# EAGLE library part 0794065-0 (library con-amp)
MINI UNIVERSAL MATE-N-LOCK (TM) Double Row Vertical 8 Pol. Source: http://catalog.tycoelectronics.com .. ENG_CD_794065_D1.pdf
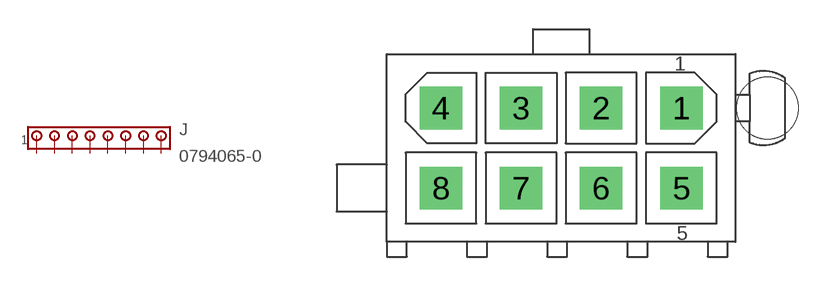
[diagram p170: symbol with the pads of 0794065-0; footprint 0794065-0]

Designator prefix J

## 0794065-0  [0794065-0]
1  1  pas
2  2  pas
3  3  pas
4  4  pas
5  5  pas
6  6  pas
7  7  pas
8  8  pas

## Footprint 0794065-0 (pad centres in mm)
MINI UNIVERSAL MATE-N-LOCK (TM) Double Row Vertical 8 Pol. Source: http://catalog.tycoelectronics.com .. ENG_CD_794065_D1.pdf
drill 1.4 pad 2.2 square: 1 6.21,2.07; 2 2.07,2.07; 3 -2.07,2.07; 4 -6.21,2.07; 5 6.21,-2.07; 6 2.07,-2.07; 7 -2.07,-2.07; 8 -6.21,-2.07
hole 3.2 at 10.66,2.07